# EAGLE library part LTC4002ES8-4.2PBF (library Power)
LiCharger
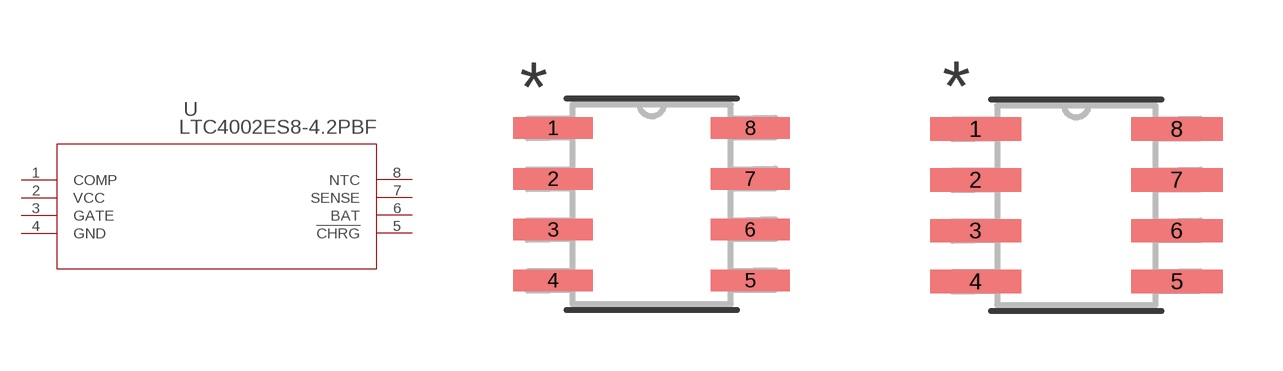
[diagram p1: symbol with the pads of SO-8_S; footprints SO-8_S, SO-8_S-M]

Designator prefix U

## LTC4002ES8-4.2PBF (MANUFACTURER_PART_NUMBER: ltc4002es84.2#pbf; VENDOR: Linear Technology)  [SO-8_S]
1  COMP  pas
2  VCC  pwr
3  GATE  out
4  GND  pwr
5  !CHRG  out
6  BAT  in
7  SENSE  in
8  NTC  pas

## LTC4002ES8-4.2PBFSO-8_S-M (MANUFACTURER_PART_NUMBER: ltc4002es84.2#pbf; VENDOR: Linear Technology)  [SO-8_S-M]
Pads as for SO-8_S

## LTC4002ES8-4.2PBFSO-8_S-L (MANUFACTURER_PART_NUMBER: ltc4002es84.2#pbf; VENDOR: Linear Technology)  [SO-8_S-L]
Pads as for SO-8_S

## Footprint SO-8_S (pad centres in mm)
smd 1.981 x 0.533: 1 -2.464,1.905; 2 -2.464,0.635; 3 -2.464,-0.635; 4 -2.464,-1.905; 5 2.464,-1.905; 6 2.464,-0.635; 7 2.464,0.635; 8 2.464,1.905

## Footprint SO-8_S-M (pad centres in mm)
smd 2.286 x 0.584: 1 -2.515,1.905; 2 -2.515,0.635; 3 -2.515,-0.635; 4 -2.515,-1.905; 5 2.515,-1.905; 6 2.515,-0.635; 7 2.515,0.635; 8 2.515,1.905

## Footprint SO-8_S-L (pad centres in mm)
smd 1.676 x 0.483: 1 -2.413,1.905; 2 -2.413,0.635; 3 -2.413,-0.635; 4 -2.413,-1.905; 5 2.413,-1.905; 6 2.413,-0.635; 7 2.413,0.635; 8 2.413,1.905